# Altium footprint library Connector_PinHeader_2.54mm.PcbLib: 278 footprints (part 8 of 18)
Each footprint in its own frame and in the unit in brackets; x right, y up, seen from the top. Pads: shape width x height; smd on the part's side, far side on the other; paste and mask are expansions set on the pad; w line width, h text height; cw(c..) or ccw(c..) is an arc to the next point about the centre after c.
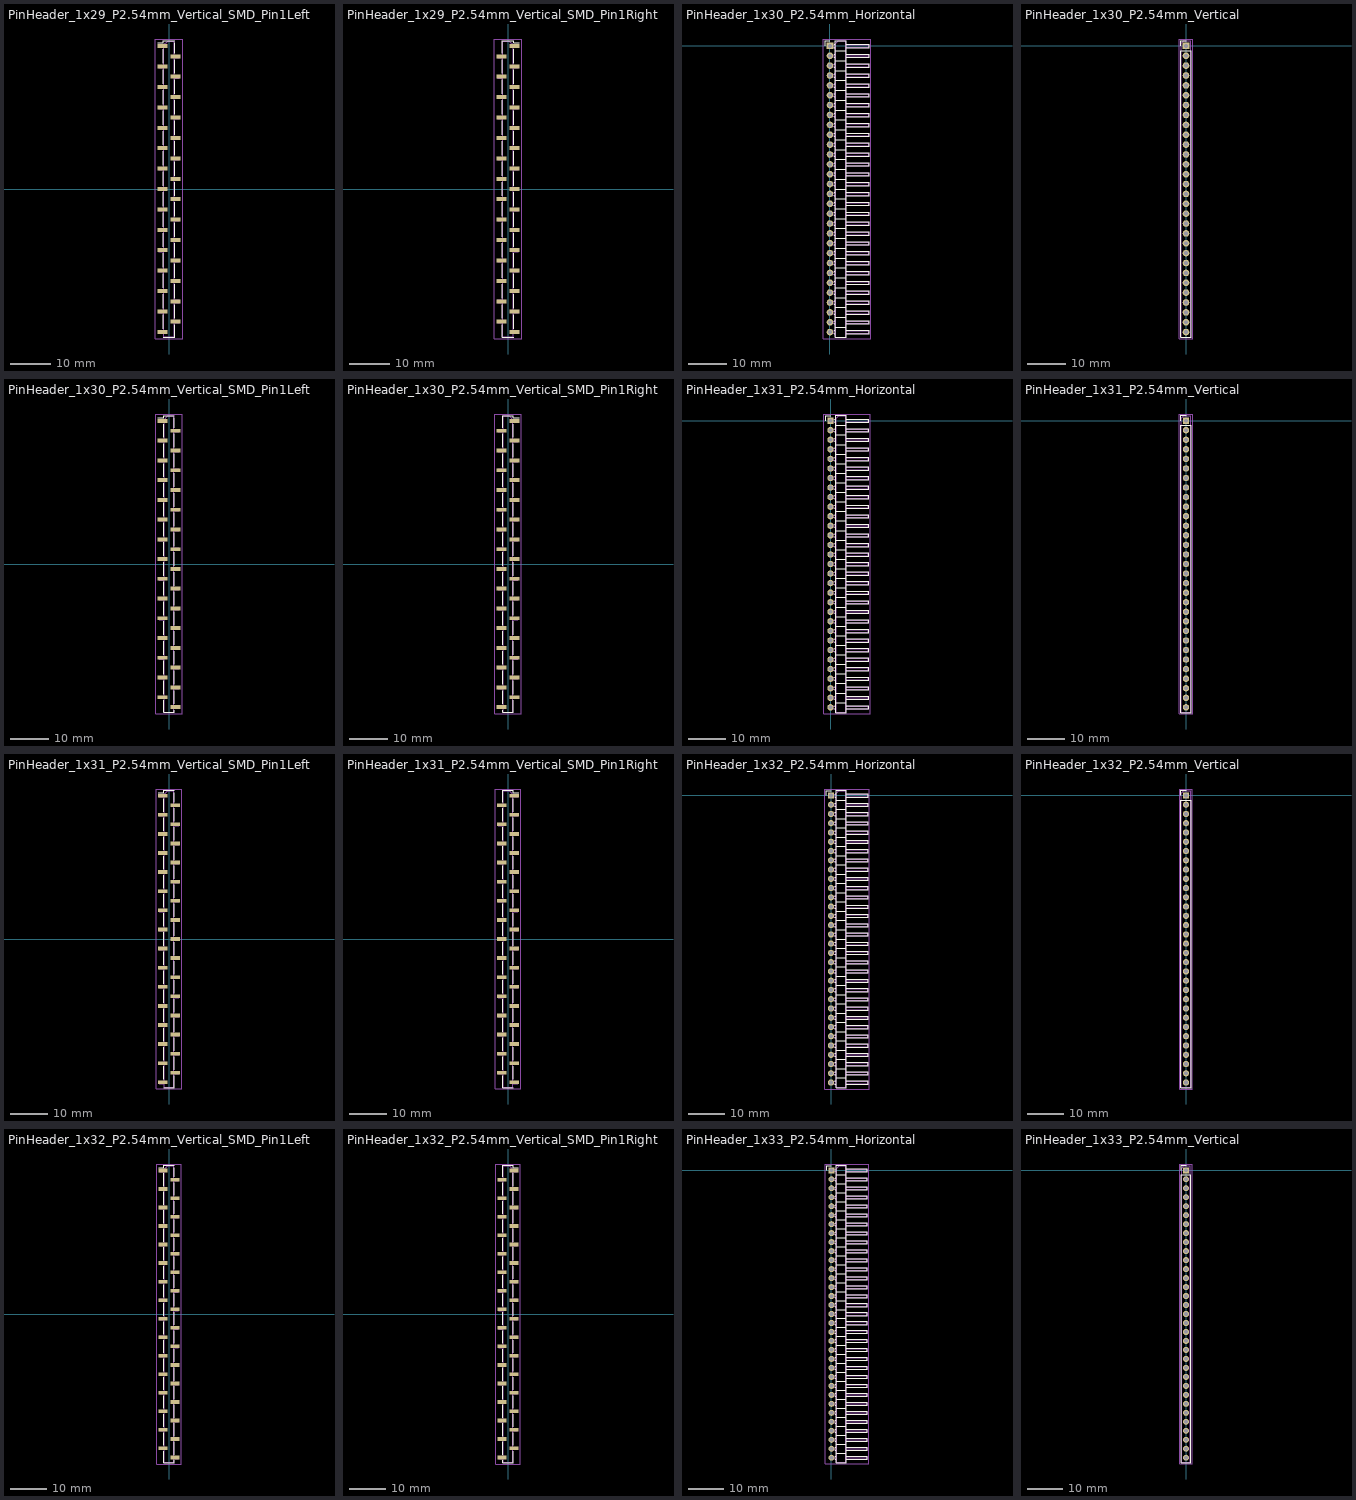
[diagram p7: the footprints below, top view; thin cyan lines are the x and y axes]

## PinHeader_1x29_P2.54mm_Vertical_SMD_Pin1Left [mm]
pads (29):
  rect 2.51x1 smd: 1(-1.655,35.56) 2(1.655,33.02) 3(-1.655,30.48) 4(1.655,27.94) 5(-1.655,25.4) 6(1.655,22.86) 7(-1.655,20.32) 8(1.655,17.78) 9(-1.655,15.24) 10(1.655,12.7) 11(-1.655,10.16) 12(1.655,7.62) 13(-1.655,5.08) 14(1.655,2.54) 15(-1.655,0) 16(1.655,-2.54) 17(-1.655,-5.08) 18(1.655,-7.62) 19(-1.655,-10.16) 20(1.655,-12.7) 21(-1.655,-15.24) 22(1.655,-17.78) 23(-1.655,-20.32) 24(1.655,-22.86) 25(-1.655,-25.4) 26(1.655,-27.94) 27(-1.655,-30.48) 28(1.655,-33.02) 29(-1.655,-35.56)
F.SilkS:
  lines w0.254: -2.85,36.37 -1.38,36.37 -1.38,36.94 1.38,36.94 ; -1.38,-36.94 1.38,-36.94 ; -1.38,-34.75 -1.38,-31.29 ; -1.38,-29.67 -1.38,-26.21 ; -1.38,-24.59 -1.38,-21.13 ; -1.38,-19.51 -1.38,-16.05 ; -1.38,-14.43 -1.38,-10.97 ; -1.38,-9.35 -1.38,-5.89 ; -1.38,-4.27 -1.38,-0.81 ; -1.38,0.81 -1.38,4.27 ; -1.38,5.89 -1.38,9.35 ; -1.38,10.97 -1.38,14.43 ; -1.38,16.05 -1.38,19.51 ; -1.38,21.13 -1.38,24.59 ; -1.38,26.21 -1.38,29.67 ; -1.38,31.29 -1.38,34.75 ; 1.38,-36.37 1.38,-36.94 ; 1.38,-33.83 1.38,-36.94 ; 1.38,-32.21 1.38,-28.75 ; 1.38,-27.13 1.38,-23.67 ; 1.38,-22.05 1.38,-18.59 ; 1.38,-16.97 1.38,-13.51 ; 1.38,-11.89 1.38,-8.43 ; 1.38,-6.81 1.38,-3.35 ; 1.38,-1.73 1.38,1.73 ; 1.38,3.35 1.38,6.81 ; 1.38,8.43 1.38,11.89 ; 1.38,13.51 1.38,16.97 ; 1.38,18.59 1.38,22.05 ; 1.38,23.67 1.38,27.13 ; 1.38,28.75 1.38,32.21 ; 1.38,33.83 1.38,36.37
Top Assembly:
  lines w0.254: -1.27,-35.88 -2.54,-35.88 -2.54,-35.24 -1.27,-35.24 ; -1.27,-30.8 -2.54,-30.8 -2.54,-30.16 -1.27,-30.16 ; -1.27,-25.72 -2.54,-25.72 -2.54,-25.08 -1.27,-25.08 ; -1.27,-20.64 -2.54,-20.64 -2.54,-20 -1.27,-20 ; -1.27,-15.56 -2.54,-15.56 -2.54,-14.92 -1.27,-14.92 ; -1.27,-10.48 -2.54,-10.48 -2.54,-9.84 -1.27,-9.84 ; -1.27,-5.4 -2.54,-5.4 -2.54,-4.76 -1.27,-4.76 ; -1.27,-0.32 -2.54,-0.32 -2.54,0.32 -1.27,0.32 ; -1.27,4.76 -2.54,4.76 -2.54,5.4 -1.27,5.4 ; -1.27,9.84 -2.54,9.84 -2.54,10.48 -1.27,10.48 ; -1.27,14.92 -2.54,14.92 -2.54,15.56 -1.27,15.56 ; -1.27,20 -2.54,20 -2.54,20.64 -1.27,20.64 ; -1.27,25.08 -2.54,25.08 -2.54,25.72 -1.27,25.72 ; -1.27,30.16 -2.54,30.16 -2.54,30.8 -1.27,30.8 ; -1.27,35.24 -2.54,35.24 -2.54,35.88 -1.27,35.88 ; 1.27,-33.34 2.54,-33.34 2.54,-32.7 1.27,-32.7 ; 1.27,-28.26 2.54,-28.26 2.54,-27.62 1.27,-27.62 ; 1.27,-23.18 2.54,-23.18 2.54,-22.54 1.27,-22.54 ; 1.27,-18.1 2.54,-18.1 2.54,-17.46 1.27,-17.46 ; 1.27,-13.02 2.54,-13.02 2.54,-12.38 1.27,-12.38 ; 1.27,-7.94 2.54,-7.94 2.54,-7.3 1.27,-7.3 ; 1.27,-2.86 2.54,-2.86 2.54,-2.22 1.27,-2.22 ; 1.27,2.22 2.54,2.22 2.54,2.86 1.27,2.86 ; 1.27,7.3 2.54,7.3 2.54,7.94 1.27,7.94 ; 1.27,12.38 2.54,12.38 2.54,13.02 1.27,13.02 ; 1.27,17.46 2.54,17.46 2.54,18.1 1.27,18.1 ; 1.27,22.54 2.54,22.54 2.54,23.18 1.27,23.18 ; 1.27,27.62 2.54,27.62 2.54,28.26 1.27,28.26 ; 1.27,32.7 2.54,32.7 2.54,33.34 1.27,33.34 ; -1.27,35.88 -1.27,-36.83 1.27,-36.83 1.27,36.83 -0.32,36.83 -1.27,35.88
  text "'.Designator'" at 0.84,-4.047 h1
Top Courtyard:
  lines w0.254: -3.41,-37.33 3.41,-37.33 3.41,37.33 -3.41,37.33 -3.41,-37.33
Top Designator:
  text ".Designator" at -7.618,-0.508 h1.52

## PinHeader_1x29_P2.54mm_Vertical_SMD_Pin1Right [mm]
pads (29):
  rect 2.51x1 smd: 1(1.655,35.56) 2(-1.655,33.02) 3(1.655,30.48) 4(-1.655,27.94) 5(1.655,25.4) 6(-1.655,22.86) 7(1.655,20.32) 8(-1.655,17.78) 9(1.655,15.24) 10(-1.655,12.7) 11(1.655,10.16) 12(-1.655,7.62) 13(1.655,5.08) 14(-1.655,2.54) 15(1.655,0) 16(-1.655,-2.54) 17(1.655,-5.08) 18(-1.655,-7.62) 19(1.655,-10.16) 20(-1.655,-12.7) 21(1.655,-15.24) 22(-1.655,-17.78) 23(1.655,-20.32) 24(-1.655,-22.86) 25(1.655,-25.4) 26(-1.655,-27.94) 27(1.655,-30.48) 28(-1.655,-33.02) 29(1.655,-35.56)
F.SilkS:
  lines w0.254: -1.38,-36.37 -1.38,-36.94 ; -1.38,-33.83 -1.38,-36.94 ; -1.38,-32.21 -1.38,-28.75 ; -1.38,-27.13 -1.38,-23.67 ; -1.38,-22.05 -1.38,-18.59 ; -1.38,-16.97 -1.38,-13.51 ; -1.38,-11.89 -1.38,-8.43 ; -1.38,-6.81 -1.38,-3.35 ; -1.38,-1.73 -1.38,1.73 ; -1.38,3.35 -1.38,6.81 ; -1.38,8.43 -1.38,11.89 ; -1.38,13.51 -1.38,16.97 ; -1.38,18.59 -1.38,22.05 ; -1.38,23.67 -1.38,27.13 ; -1.38,28.75 -1.38,32.21 ; -1.38,36.37 -1.38,33.83 -1.38,36.94 1.38,36.94 1.38,36.37 2.85,36.37 ; 1.38,-36.94 -1.38,-36.94 ; 1.38,-34.75 1.38,-31.29 ; 1.38,-29.67 1.38,-26.21 ; 1.38,-24.59 1.38,-21.13 ; 1.38,-19.51 1.38,-16.05 ; 1.38,-14.43 1.38,-10.97 ; 1.38,-9.35 1.38,-5.89 ; 1.38,-4.27 1.38,-0.81 ; 1.38,0.81 1.38,4.27 ; 1.38,5.89 1.38,9.35 ; 1.38,10.97 1.38,14.43 ; 1.38,16.05 1.38,19.51 ; 1.38,21.13 1.38,24.59 ; 1.38,26.21 1.38,29.67 ; 1.38,31.29 1.38,34.75
Top Assembly:
  lines w0.254: -1.27,-33.34 -2.54,-33.34 -2.54,-32.7 -1.27,-32.7 ; -1.27,-28.26 -2.54,-28.26 -2.54,-27.62 -1.27,-27.62 ; -1.27,-23.18 -2.54,-23.18 -2.54,-22.54 -1.27,-22.54 ; -1.27,-18.1 -2.54,-18.1 -2.54,-17.46 -1.27,-17.46 ; -1.27,-13.02 -2.54,-13.02 -2.54,-12.38 -1.27,-12.38 ; -1.27,-7.94 -2.54,-7.94 -2.54,-7.3 -1.27,-7.3 ; -1.27,-2.86 -2.54,-2.86 -2.54,-2.22 -1.27,-2.22 ; -1.27,2.22 -2.54,2.22 -2.54,2.86 -1.27,2.86 ; -1.27,7.3 -2.54,7.3 -2.54,7.94 -1.27,7.94 ; -1.27,12.38 -2.54,12.38 -2.54,13.02 -1.27,13.02 ; -1.27,17.46 -2.54,17.46 -2.54,18.1 -1.27,18.1 ; -1.27,22.54 -2.54,22.54 -2.54,23.18 -1.27,23.18 ; -1.27,27.62 -2.54,27.62 -2.54,28.26 -1.27,28.26 ; -1.27,32.7 -2.54,32.7 -2.54,33.34 -1.27,33.34 ; 1.27,-35.88 2.54,-35.88 2.54,-35.24 1.27,-35.24 ; 1.27,-30.8 2.54,-30.8 2.54,-30.16 1.27,-30.16 ; 1.27,-25.72 2.54,-25.72 2.54,-25.08 1.27,-25.08 ; 1.27,-20.64 2.54,-20.64 2.54,-20 1.27,-20 ; 1.27,-15.56 2.54,-15.56 2.54,-14.92 1.27,-14.92 ; 1.27,-10.48 2.54,-10.48 2.54,-9.84 1.27,-9.84 ; 1.27,-5.4 2.54,-5.4 2.54,-4.76 1.27,-4.76 ; 1.27,-0.32 2.54,-0.32 2.54,0.32 1.27,0.32 ; 1.27,4.76 2.54,4.76 2.54,5.4 1.27,5.4 ; 1.27,9.84 2.54,9.84 2.54,10.48 1.27,10.48 ; 1.27,14.92 2.54,14.92 2.54,15.56 1.27,15.56 ; 1.27,20 2.54,20 2.54,20.64 1.27,20.64 ; 1.27,25.08 2.54,25.08 2.54,25.72 1.27,25.72 ; 1.27,30.16 2.54,30.16 2.54,30.8 1.27,30.8 ; 1.27,35.24 2.54,35.24 2.54,35.88 1.27,35.88 ; 1.27,35.88 1.27,-36.83 -1.27,-36.83 -1.27,36.83 0.32,36.83 1.27,35.88
  text "'.Designator'" at 0.84,-4.047 h1
Top Courtyard:
  lines w0.254: -3.41,-37.33 3.41,-37.33 3.41,37.33 -3.41,37.33 -3.41,-37.33
Top Designator:
  text ".Designator" at -7.618,-0.508 h1.52

## PinHeader_1x30_P2.54mm_Horizontal [mm]
pads (30):
  rect 1.7x1.7 hole 1: 1(0,0)
  round 1.7 hole 1: 2(0,-2.54) 3(0,-5.08) 4(0,-7.62) 5(0,-10.16) 6(0,-12.7) 7(0,-15.24) 8(0,-17.78) 9(0,-20.32) 10(0,-22.86) 11(0,-25.4) 12(0,-27.94) 13(0,-30.48) 14(0,-33.02) 15(0,-35.56) 16(0,-38.1) 17(0,-40.64) 18(0,-43.18) 19(0,-45.72) 20(0,-48.26) 21(0,-50.8) 22(0,-53.34) 23(0,-55.88) 24(0,-58.42) 25(0,-60.96) 26(0,-63.5) 27(0,-66.04) 28(0,-68.58) 29(0,-71.12) 30(0,-73.66)
F.SilkS:
  drawing of 186 lines, arcs and shapes, not listed
Top Assembly:
  drawing of 185 lines, arcs and shapes, not listed
  text "'.Designator'" at 3.61,-40.877 h1
Top Courtyard:
  lines w0.254: -1.77,-75.43 10.54,-75.43 10.54,1.77 -1.77,1.77 -1.77,-75.43
Top Designator:
  text ".Designator" at -3.233,-37.338 h1.52

## PinHeader_1x30_P2.54mm_Vertical [mm]
pads (30):
  rect 1.7x1.7 hole 1: 1(0,0)
  round 1.7 hole 1: 2(0,-2.54) 3(0,-5.08) 4(0,-7.62) 5(0,-10.16) 6(0,-12.7) 7(0,-15.24) 8(0,-17.78) 9(0,-20.32) 10(0,-22.86) 11(0,-25.4) 12(0,-27.94) 13(0,-30.48) 14(0,-33.02) 15(0,-35.56) 16(0,-38.1) 17(0,-40.64) 18(0,-43.18) 19(0,-45.72) 20(0,-48.26) 21(0,-50.8) 22(0,-53.34) 23(0,-55.88) 24(0,-58.42) 25(0,-60.96) 26(0,-63.5) 27(0,-66.04) 28(0,-68.58) 29(0,-71.12) 30(0,-73.66)
F.SilkS:
  lines w0.254: -1.38,0 -1.38,1.38 0,1.38 ; -1.38,-75.04 1.38,-75.04 1.38,-1.27 -1.38,-1.27 -1.38,-75.04
Top Assembly:
  lines w0.254: -1.27,-74.93 1.27,-74.93 1.27,1.27 -0.635,1.27 -1.27,0.635 -1.27,-74.93
  text "'.Designator'" at 0.84,-40.877 h1
Top Courtyard:
  lines w0.254: -1.77,-75.43 1.77,-75.43 1.77,1.77 -1.77,1.77 -1.77,-75.43
Top Designator:
  text ".Designator" at -7.618,-37.338 h1.52

## PinHeader_1x30_P2.54mm_Vertical_SMD_Pin1Left [mm]
pads (30):
  rect 2.51x1 smd: 1(-1.655,36.83) 2(1.655,34.29) 3(-1.655,31.75) 4(1.655,29.21) 5(-1.655,26.67) 6(1.655,24.13) 7(-1.655,21.59) 8(1.655,19.05) 9(-1.655,16.51) 10(1.655,13.97) 11(-1.655,11.43) 12(1.655,8.89) 13(-1.655,6.35) 14(1.655,3.81) 15(-1.655,1.27) 16(1.655,-1.27) 17(-1.655,-3.81) 18(1.655,-6.35) 19(-1.655,-8.89) 20(1.655,-11.43) 21(-1.655,-13.97) 22(1.655,-16.51) 23(-1.655,-19.05) 24(1.655,-21.59) 25(-1.655,-24.13) 26(1.655,-26.67) 27(-1.655,-29.21) 28(1.655,-31.75) 29(-1.655,-34.29) 30(1.655,-36.83)
F.SilkS:
  lines w0.254: -2.85,37.64 -1.38,37.64 -1.38,38.21 1.38,38.21 ; -1.38,-35.1 -1.38,-38.21 1.38,-38.21 1.38,-37.64 ; -1.38,-33.48 -1.38,-30.02 ; -1.38,-28.4 -1.38,-24.94 ; -1.38,-23.32 -1.38,-19.86 ; -1.38,-18.24 -1.38,-14.78 ; -1.38,-13.16 -1.38,-9.7 ; -1.38,-8.08 -1.38,-4.62 ; -1.38,-3 -1.38,0.46 ; -1.38,2.08 -1.38,5.54 ; -1.38,7.16 -1.38,10.62 ; -1.38,12.24 -1.38,15.7 ; -1.38,17.32 -1.38,20.78 ; -1.38,22.4 -1.38,25.86 ; -1.38,27.48 -1.38,30.94 ; -1.38,32.56 -1.38,36.02 ; 1.38,-36.02 1.38,-32.56 ; 1.38,-30.94 1.38,-27.48 ; 1.38,-25.86 1.38,-22.4 ; 1.38,-20.78 1.38,-17.32 ; 1.38,-15.7 1.38,-12.24 ; 1.38,-10.62 1.38,-7.16 ; 1.38,-5.54 1.38,-2.08 ; 1.38,-0.46 1.38,3 ; 1.38,4.62 1.38,8.08 ; 1.38,9.7 1.38,13.16 ; 1.38,14.78 1.38,18.24 ; 1.38,19.86 1.38,23.32 ; 1.38,24.94 1.38,28.4 ; 1.38,30.02 1.38,33.48 ; 1.38,35.1 1.38,37.64
Top Assembly:
  lines w0.254: -1.27,-34.61 -2.54,-34.61 -2.54,-33.97 -1.27,-33.97 ; -1.27,-29.53 -2.54,-29.53 -2.54,-28.89 -1.27,-28.89 ; -1.27,-24.45 -2.54,-24.45 -2.54,-23.81 -1.27,-23.81 ; -1.27,-19.37 -2.54,-19.37 -2.54,-18.73 -1.27,-18.73 ; -1.27,-14.29 -2.54,-14.29 -2.54,-13.65 -1.27,-13.65 ; -1.27,-9.21 -2.54,-9.21 -2.54,-8.57 -1.27,-8.57 ; -1.27,-4.13 -2.54,-4.13 -2.54,-3.49 -1.27,-3.49 ; -1.27,0.95 -2.54,0.95 -2.54,1.59 -1.27,1.59 ; -1.27,6.03 -2.54,6.03 -2.54,6.67 -1.27,6.67 ; -1.27,11.11 -2.54,11.11 -2.54,11.75 -1.27,11.75 ; -1.27,16.19 -2.54,16.19 -2.54,16.83 -1.27,16.83 ; -1.27,21.27 -2.54,21.27 -2.54,21.91 -1.27,21.91 ; -1.27,26.35 -2.54,26.35 -2.54,26.99 -1.27,26.99 ; -1.27,31.43 -2.54,31.43 -2.54,32.07 -1.27,32.07 ; -1.27,36.51 -2.54,36.51 -2.54,37.15 -1.27,37.15 ; 1.27,-37.15 2.54,-37.15 2.54,-36.51 1.27,-36.51 ; 1.27,-32.07 2.54,-32.07 2.54,-31.43 1.27,-31.43 ; 1.27,-26.99 2.54,-26.99 2.54,-26.35 1.27,-26.35 ; 1.27,-21.91 2.54,-21.91 2.54,-21.27 1.27,-21.27 ; 1.27,-16.83 2.54,-16.83 2.54,-16.19 1.27,-16.19 ; 1.27,-11.75 2.54,-11.75 2.54,-11.11 1.27,-11.11 ; 1.27,-6.67 2.54,-6.67 2.54,-6.03 1.27,-6.03 ; 1.27,-1.59 2.54,-1.59 2.54,-0.95 1.27,-0.95 ; 1.27,3.49 2.54,3.49 2.54,4.13 1.27,4.13 ; 1.27,8.57 2.54,8.57 2.54,9.21 1.27,9.21 ; 1.27,13.65 2.54,13.65 2.54,14.29 1.27,14.29 ; 1.27,18.73 2.54,18.73 2.54,19.37 1.27,19.37 ; 1.27,23.81 2.54,23.81 2.54,24.45 1.27,24.45 ; 1.27,28.89 2.54,28.89 2.54,29.53 1.27,29.53 ; 1.27,33.97 2.54,33.97 2.54,34.61 1.27,34.61 ; -1.27,37.15 -1.27,-38.1 1.27,-38.1 1.27,38.1 -0.32,38.1 -1.27,37.15
  text "'.Designator'" at 0.84,-4.047 h1
Top Courtyard:
  lines w0.254: -3.41,-38.6 3.41,-38.6 3.41,38.6 -3.41,38.6 -3.41,-38.6
Top Designator:
  text ".Designator" at -7.618,-0.508 h1.52

## PinHeader_1x30_P2.54mm_Vertical_SMD_Pin1Right [mm]
pads (30):
  rect 2.51x1 smd: 1(1.655,36.83) 2(-1.655,34.29) 3(1.655,31.75) 4(-1.655,29.21) 5(1.655,26.67) 6(-1.655,24.13) 7(1.655,21.59) 8(-1.655,19.05) 9(1.655,16.51) 10(-1.655,13.97) 11(1.655,11.43) 12(-1.655,8.89) 13(1.655,6.35) 14(-1.655,3.81) 15(1.655,1.27) 16(-1.655,-1.27) 17(1.655,-3.81) 18(-1.655,-6.35) 19(1.655,-8.89) 20(-1.655,-11.43) 21(1.655,-13.97) 22(-1.655,-16.51) 23(1.655,-19.05) 24(-1.655,-21.59) 25(1.655,-24.13) 26(-1.655,-26.67) 27(1.655,-29.21) 28(-1.655,-31.75) 29(1.655,-34.29) 30(-1.655,-36.83)
F.SilkS:
  lines w0.254: -1.38,-37.64 -1.38,-38.21 1.38,-38.21 1.38,-35.1 ; -1.38,-36.02 -1.38,-32.56 ; -1.38,-30.94 -1.38,-27.48 ; -1.38,-25.86 -1.38,-22.4 ; -1.38,-20.78 -1.38,-17.32 ; -1.38,-15.7 -1.38,-12.24 ; -1.38,-10.62 -1.38,-7.16 ; -1.38,-5.54 -1.38,-2.08 ; -1.38,-0.46 -1.38,3 ; -1.38,4.62 -1.38,8.08 ; -1.38,9.7 -1.38,13.16 ; -1.38,14.78 -1.38,18.24 ; -1.38,19.86 -1.38,23.32 ; -1.38,24.94 -1.38,28.4 ; -1.38,30.02 -1.38,33.48 ; -1.38,37.64 -1.38,35.1 -1.38,38.21 1.38,38.21 1.38,37.64 2.85,37.64 ; 1.38,-33.48 1.38,-30.02 ; 1.38,-28.4 1.38,-24.94 ; 1.38,-23.32 1.38,-19.86 ; 1.38,-18.24 1.38,-14.78 ; 1.38,-13.16 1.38,-9.7 ; 1.38,-8.08 1.38,-4.62 ; 1.38,-3 1.38,0.46 ; 1.38,2.08 1.38,5.54 ; 1.38,7.16 1.38,10.62 ; 1.38,12.24 1.38,15.7 ; 1.38,17.32 1.38,20.78 ; 1.38,22.4 1.38,25.86 ; 1.38,27.48 1.38,30.94 ; 1.38,32.56 1.38,36.02
Top Assembly:
  lines w0.254: -1.27,-37.15 -2.54,-37.15 -2.54,-36.51 -1.27,-36.51 ; -1.27,-32.07 -2.54,-32.07 -2.54,-31.43 -1.27,-31.43 ; -1.27,-26.99 -2.54,-26.99 -2.54,-26.35 -1.27,-26.35 ; -1.27,-21.91 -2.54,-21.91 -2.54,-21.27 -1.27,-21.27 ; -1.27,-16.83 -2.54,-16.83 -2.54,-16.19 -1.27,-16.19 ; -1.27,-11.75 -2.54,-11.75 -2.54,-11.11 -1.27,-11.11 ; -1.27,-6.67 -2.54,-6.67 -2.54,-6.03 -1.27,-6.03 ; -1.27,-1.59 -2.54,-1.59 -2.54,-0.95 -1.27,-0.95 ; -1.27,3.49 -2.54,3.49 -2.54,4.13 -1.27,4.13 ; -1.27,8.57 -2.54,8.57 -2.54,9.21 -1.27,9.21 ; -1.27,13.65 -2.54,13.65 -2.54,14.29 -1.27,14.29 ; -1.27,18.73 -2.54,18.73 -2.54,19.37 -1.27,19.37 ; -1.27,23.81 -2.54,23.81 -2.54,24.45 -1.27,24.45 ; -1.27,28.89 -2.54,28.89 -2.54,29.53 -1.27,29.53 ; -1.27,33.97 -2.54,33.97 -2.54,34.61 -1.27,34.61 ; 1.27,-34.61 2.54,-34.61 2.54,-33.97 1.27,-33.97 ; 1.27,-29.53 2.54,-29.53 2.54,-28.89 1.27,-28.89 ; 1.27,-24.45 2.54,-24.45 2.54,-23.81 1.27,-23.81 ; 1.27,-19.37 2.54,-19.37 2.54,-18.73 1.27,-18.73 ; 1.27,-14.29 2.54,-14.29 2.54,-13.65 1.27,-13.65 ; 1.27,-9.21 2.54,-9.21 2.54,-8.57 1.27,-8.57 ; 1.27,-4.13 2.54,-4.13 2.54,-3.49 1.27,-3.49 ; 1.27,0.95 2.54,0.95 2.54,1.59 1.27,1.59 ; 1.27,6.03 2.54,6.03 2.54,6.67 1.27,6.67 ; 1.27,11.11 2.54,11.11 2.54,11.75 1.27,11.75 ; 1.27,16.19 2.54,16.19 2.54,16.83 1.27,16.83 ; 1.27,21.27 2.54,21.27 2.54,21.91 1.27,21.91 ; 1.27,26.35 2.54,26.35 2.54,26.99 1.27,26.99 ; 1.27,31.43 2.54,31.43 2.54,32.07 1.27,32.07 ; 1.27,36.51 2.54,36.51 2.54,37.15 1.27,37.15 ; 1.27,37.15 1.27,-38.1 -1.27,-38.1 -1.27,38.1 0.32,38.1 1.27,37.15
  text "'.Designator'" at 0.84,-4.047 h1
Top Courtyard:
  lines w0.254: -3.41,-38.6 3.41,-38.6 3.41,38.6 -3.41,38.6 -3.41,-38.6
Top Designator:
  text ".Designator" at -7.618,-0.508 h1.52

## PinHeader_1x31_P2.54mm_Horizontal [mm]
pads (31):
  rect 1.7x1.7 hole 1: 1(0,0)
  round 1.7 hole 1: 2(0,-2.54) 3(0,-5.08) 4(0,-7.62) 5(0,-10.16) 6(0,-12.7) 7(0,-15.24) 8(0,-17.78) 9(0,-20.32) 10(0,-22.86) 11(0,-25.4) 12(0,-27.94) 13(0,-30.48) 14(0,-33.02) 15(0,-35.56) 16(0,-38.1) 17(0,-40.64) 18(0,-43.18) 19(0,-45.72) 20(0,-48.26) 21(0,-50.8) 22(0,-53.34) 23(0,-55.88) 24(0,-58.42) 25(0,-60.96) 26(0,-63.5) 27(0,-66.04) 28(0,-68.58) 29(0,-71.12) 30(0,-73.66) 31(0,-76.2)
F.SilkS:
  drawing of 192 lines, arcs and shapes, not listed
Top Assembly:
  drawing of 191 lines, arcs and shapes, not listed
  text "'.Designator'" at 3.61,-42.147 h1
Top Courtyard:
  lines w0.254: -1.77,-77.97 10.54,-77.97 10.54,1.77 -1.77,1.77 -1.77,-77.97
Top Designator:
  text ".Designator" at -3.233,-38.608 h1.52

## PinHeader_1x31_P2.54mm_Vertical [mm]
pads (31):
  rect 1.7x1.7 hole 1: 1(0,0)
  round 1.7 hole 1: 2(0,-2.54) 3(0,-5.08) 4(0,-7.62) 5(0,-10.16) 6(0,-12.7) 7(0,-15.24) 8(0,-17.78) 9(0,-20.32) 10(0,-22.86) 11(0,-25.4) 12(0,-27.94) 13(0,-30.48) 14(0,-33.02) 15(0,-35.56) 16(0,-38.1) 17(0,-40.64) 18(0,-43.18) 19(0,-45.72) 20(0,-48.26) 21(0,-50.8) 22(0,-53.34) 23(0,-55.88) 24(0,-58.42) 25(0,-60.96) 26(0,-63.5) 27(0,-66.04) 28(0,-68.58) 29(0,-71.12) 30(0,-73.66) 31(0,-76.2)
F.SilkS:
  lines w0.254: -1.38,0 -1.38,1.38 0,1.38 ; -1.38,-77.58 1.38,-77.58 1.38,-1.27 -1.38,-1.27 -1.38,-77.58
Top Assembly:
  lines w0.254: -1.27,-77.47 1.27,-77.47 1.27,1.27 -0.635,1.27 -1.27,0.635 -1.27,-77.47
  text "'.Designator'" at 0.84,-42.147 h1
Top Courtyard:
  lines w0.254: -1.77,-77.97 1.77,-77.97 1.77,1.77 -1.77,1.77 -1.77,-77.97
Top Designator:
  text ".Designator" at -7.618,-38.608 h1.52

## PinHeader_1x31_P2.54mm_Vertical_SMD_Pin1Left [mm]
pads (31):
  rect 2.51x1 smd: 1(-1.655,38.1) 2(1.655,35.56) 3(-1.655,33.02) 4(1.655,30.48) 5(-1.655,27.94) 6(1.655,25.4) 7(-1.655,22.86) 8(1.655,20.32) 9(-1.655,17.78) 10(1.655,15.24) 11(-1.655,12.7) 12(1.655,10.16) 13(-1.655,7.62) 14(1.655,5.08) 15(-1.655,2.54) 16(1.655,0) 17(-1.655,-2.54) 18(1.655,-5.08) 19(-1.655,-7.62) 20(1.655,-10.16) 21(-1.655,-12.7) 22(1.655,-15.24) 23(-1.655,-17.78) 24(1.655,-20.32) 25(-1.655,-22.86) 26(1.655,-25.4) 27(-1.655,-27.94) 28(1.655,-30.48) 29(-1.655,-33.02) 30(1.655,-35.56) 31(-1.655,-38.1)
F.SilkS:
  lines w0.254: -2.85,38.91 -1.38,38.91 -1.38,39.48 1.38,39.48 ; -1.38,-39.48 1.38,-39.48 ; -1.38,-37.29 -1.38,-33.83 ; -1.38,-32.21 -1.38,-28.75 ; -1.38,-27.13 -1.38,-23.67 ; -1.38,-22.05 -1.38,-18.59 ; -1.38,-16.97 -1.38,-13.51 ; -1.38,-11.89 -1.38,-8.43 ; -1.38,-6.81 -1.38,-3.35 ; -1.38,-1.73 -1.38,1.73 ; -1.38,3.35 -1.38,6.81 ; -1.38,8.43 -1.38,11.89 ; -1.38,13.51 -1.38,16.97 ; -1.38,18.59 -1.38,22.05 ; -1.38,23.67 -1.38,27.13 ; -1.38,28.75 -1.38,32.21 ; -1.38,33.83 -1.38,37.29 ; 1.38,-38.91 1.38,-39.48 ; 1.38,-36.37 1.38,-39.48 ; 1.38,-34.75 1.38,-31.29 ; 1.38,-29.67 1.38,-26.21 ; 1.38,-24.59 1.38,-21.13 ; 1.38,-19.51 1.38,-16.05 ; 1.38,-14.43 1.38,-10.97 ; 1.38,-9.35 1.38,-5.89 ; 1.38,-4.27 1.38,-0.81 ; 1.38,0.81 1.38,4.27 ; 1.38,5.89 1.38,9.35 ; 1.38,10.97 1.38,14.43 ; 1.38,16.05 1.38,19.51 ; 1.38,21.13 1.38,24.59 ; 1.38,26.21 1.38,29.67 ; 1.38,31.29 1.38,34.75 ; 1.38,36.37 1.38,38.91
Top Assembly:
  lines w0.254: -1.27,-38.42 -2.54,-38.42 -2.54,-37.78 -1.27,-37.78 ; -1.27,-33.34 -2.54,-33.34 -2.54,-32.7 -1.27,-32.7 ; -1.27,-28.26 -2.54,-28.26 -2.54,-27.62 -1.27,-27.62 ; -1.27,-23.18 -2.54,-23.18 -2.54,-22.54 -1.27,-22.54 ; -1.27,-18.1 -2.54,-18.1 -2.54,-17.46 -1.27,-17.46 ; -1.27,-13.02 -2.54,-13.02 -2.54,-12.38 -1.27,-12.38 ; -1.27,-7.94 -2.54,-7.94 -2.54,-7.3 -1.27,-7.3 ; -1.27,-2.86 -2.54,-2.86 -2.54,-2.22 -1.27,-2.22 ; -1.27,2.22 -2.54,2.22 -2.54,2.86 -1.27,2.86 ; -1.27,7.3 -2.54,7.3 -2.54,7.94 -1.27,7.94 ; -1.27,12.38 -2.54,12.38 -2.54,13.02 -1.27,13.02 ; -1.27,17.46 -2.54,17.46 -2.54,18.1 -1.27,18.1 ; -1.27,22.54 -2.54,22.54 -2.54,23.18 -1.27,23.18 ; -1.27,27.62 -2.54,27.62 -2.54,28.26 -1.27,28.26 ; -1.27,32.7 -2.54,32.7 -2.54,33.34 -1.27,33.34 ; -1.27,37.78 -2.54,37.78 -2.54,38.42 -1.27,38.42 ; 1.27,-35.88 2.54,-35.88 2.54,-35.24 1.27,-35.24 ; 1.27,-30.8 2.54,-30.8 2.54,-30.16 1.27,-30.16 ; 1.27,-25.72 2.54,-25.72 2.54,-25.08 1.27,-25.08 ; 1.27,-20.64 2.54,-20.64 2.54,-20 1.27,-20 ; 1.27,-15.56 2.54,-15.56 2.54,-14.92 1.27,-14.92 ; 1.27,-10.48 2.54,-10.48 2.54,-9.84 1.27,-9.84 ; 1.27,-5.4 2.54,-5.4 2.54,-4.76 1.27,-4.76 ; 1.27,-0.32 2.54,-0.32 2.54,0.32 1.27,0.32 ; 1.27,4.76 2.54,4.76 2.54,5.4 1.27,5.4 ; 1.27,9.84 2.54,9.84 2.54,10.48 1.27,10.48 ; 1.27,14.92 2.54,14.92 2.54,15.56 1.27,15.56 ; 1.27,20 2.54,20 2.54,20.64 1.27,20.64 ; 1.27,25.08 2.54,25.08 2.54,25.72 1.27,25.72 ; 1.27,30.16 2.54,30.16 2.54,30.8 1.27,30.8 ; 1.27,35.24 2.54,35.24 2.54,35.88 1.27,35.88 ; -1.27,38.42 -1.27,-39.37 1.27,-39.37 1.27,39.37 -0.32,39.37 -1.27,38.42
  text "'.Designator'" at 0.84,-4.047 h1
Top Courtyard:
  lines w0.254: -3.41,-39.87 3.41,-39.87 3.41,39.87 -3.41,39.87 -3.41,-39.87
Top Designator:
  text ".Designator" at -7.618,-0.508 h1.52

## PinHeader_1x31_P2.54mm_Vertical_SMD_Pin1Right [mm]
pads (31):
  rect 2.51x1 smd: 1(1.655,38.1) 2(-1.655,35.56) 3(1.655,33.02) 4(-1.655,30.48) 5(1.655,27.94) 6(-1.655,25.4) 7(1.655,22.86) 8(-1.655,20.32) 9(1.655,17.78) 10(-1.655,15.24) 11(1.655,12.7) 12(-1.655,10.16) 13(1.655,7.62) 14(-1.655,5.08) 15(1.655,2.54) 16(-1.655,0) 17(1.655,-2.54) 18(-1.655,-5.08) 19(1.655,-7.62) 20(-1.655,-10.16) 21(1.655,-12.7) 22(-1.655,-15.24) 23(1.655,-17.78) 24(-1.655,-20.32) 25(1.655,-22.86) 26(-1.655,-25.4) 27(1.655,-27.94) 28(-1.655,-30.48) 29(1.655,-33.02) 30(-1.655,-35.56) 31(1.655,-38.1)
F.SilkS:
  lines w0.254: -1.38,-38.91 -1.38,-39.48 ; -1.38,-36.37 -1.38,-39.48 ; -1.38,-34.75 -1.38,-31.29 ; -1.38,-29.67 -1.38,-26.21 ; -1.38,-24.59 -1.38,-21.13 ; -1.38,-19.51 -1.38,-16.05 ; -1.38,-14.43 -1.38,-10.97 ; -1.38,-9.35 -1.38,-5.89 ; -1.38,-4.27 -1.38,-0.81 ; -1.38,0.81 -1.38,4.27 ; -1.38,5.89 -1.38,9.35 ; -1.38,10.97 -1.38,14.43 ; -1.38,16.05 -1.38,19.51 ; -1.38,21.13 -1.38,24.59 ; -1.38,26.21 -1.38,29.67 ; -1.38,31.29 -1.38,34.75 ; -1.38,38.91 -1.38,36.37 -1.38,39.48 1.38,39.48 1.38,38.91 2.85,38.91 ; 1.38,-39.48 -1.38,-39.48 ; 1.38,-37.29 1.38,-33.83 ; 1.38,-32.21 1.38,-28.75 ; 1.38,-27.13 1.38,-23.67 ; 1.38,-22.05 1.38,-18.59 ; 1.38,-16.97 1.38,-13.51 ; 1.38,-11.89 1.38,-8.43 ; 1.38,-6.81 1.38,-3.35 ; 1.38,-1.73 1.38,1.73 ; 1.38,3.35 1.38,6.81 ; 1.38,8.43 1.38,11.89 ; 1.38,13.51 1.38,16.97 ; 1.38,18.59 1.38,22.05 ; 1.38,23.67 1.38,27.13 ; 1.38,28.75 1.38,32.21 ; 1.38,33.83 1.38,37.29
Top Assembly:
  lines w0.254: -1.27,-35.88 -2.54,-35.88 -2.54,-35.24 -1.27,-35.24 ; -1.27,-30.8 -2.54,-30.8 -2.54,-30.16 -1.27,-30.16 ; -1.27,-25.72 -2.54,-25.72 -2.54,-25.08 -1.27,-25.08 ; -1.27,-20.64 -2.54,-20.64 -2.54,-20 -1.27,-20 ; -1.27,-15.56 -2.54,-15.56 -2.54,-14.92 -1.27,-14.92 ; -1.27,-10.48 -2.54,-10.48 -2.54,-9.84 -1.27,-9.84 ; -1.27,-5.4 -2.54,-5.4 -2.54,-4.76 -1.27,-4.76 ; -1.27,-0.32 -2.54,-0.32 -2.54,0.32 -1.27,0.32 ; -1.27,4.76 -2.54,4.76 -2.54,5.4 -1.27,5.4 ; -1.27,9.84 -2.54,9.84 -2.54,10.48 -1.27,10.48 ; -1.27,14.92 -2.54,14.92 -2.54,15.56 -1.27,15.56 ; -1.27,20 -2.54,20 -2.54,20.64 -1.27,20.64 ; -1.27,25.08 -2.54,25.08 -2.54,25.72 -1.27,25.72 ; -1.27,30.16 -2.54,30.16 -2.54,30.8 -1.27,30.8 ; -1.27,35.24 -2.54,35.24 -2.54,35.88 -1.27,35.88 ; 1.27,-38.42 2.54,-38.42 2.54,-37.78 1.27,-37.78 ; 1.27,-33.34 2.54,-33.34 2.54,-32.7 1.27,-32.7 ; 1.27,-28.26 2.54,-28.26 2.54,-27.62 1.27,-27.62 ; 1.27,-23.18 2.54,-23.18 2.54,-22.54 1.27,-22.54 ; 1.27,-18.1 2.54,-18.1 2.54,-17.46 1.27,-17.46 ; 1.27,-13.02 2.54,-13.02 2.54,-12.38 1.27,-12.38 ; 1.27,-7.94 2.54,-7.94 2.54,-7.3 1.27,-7.3 ; 1.27,-2.86 2.54,-2.86 2.54,-2.22 1.27,-2.22 ; 1.27,2.22 2.54,2.22 2.54,2.86 1.27,2.86 ; 1.27,7.3 2.54,7.3 2.54,7.94 1.27,7.94 ; 1.27,12.38 2.54,12.38 2.54,13.02 1.27,13.02 ; 1.27,17.46 2.54,17.46 2.54,18.1 1.27,18.1 ; 1.27,22.54 2.54,22.54 2.54,23.18 1.27,23.18 ; 1.27,27.62 2.54,27.62 2.54,28.26 1.27,28.26 ; 1.27,32.7 2.54,32.7 2.54,33.34 1.27,33.34 ; 1.27,37.78 2.54,37.78 2.54,38.42 1.27,38.42 ; 1.27,38.42 1.27,-39.37 -1.27,-39.37 -1.27,39.37 0.32,39.37 1.27,38.42
  text "'.Designator'" at 0.84,-4.047 h1
Top Courtyard:
  lines w0.254: -3.41,-39.87 3.41,-39.87 3.41,39.87 -3.41,39.87 -3.41,-39.87
Top Designator:
  text ".Designator" at -7.618,-0.508 h1.52

## PinHeader_1x32_P2.54mm_Horizontal [mm]
pads (32):
  rect 1.7x1.7 hole 1: 1(0,0)
  round 1.7 hole 1: 2(0,-2.54) 3(0,-5.08) 4(0,-7.62) 5(0,-10.16) 6(0,-12.7) 7(0,-15.24) 8(0,-17.78) 9(0,-20.32) 10(0,-22.86) 11(0,-25.4) 12(0,-27.94) 13(0,-30.48) 14(0,-33.02) 15(0,-35.56) 16(0,-38.1) 17(0,-40.64) 18(0,-43.18) 19(0,-45.72) 20(0,-48.26) 21(0,-50.8) 22(0,-53.34) 23(0,-55.88) 24(0,-58.42) 25(0,-60.96) 26(0,-63.5) 27(0,-66.04) 28(0,-68.58) 29(0,-71.12) 30(0,-73.66) 31(0,-76.2) 32(0,-78.74)
F.SilkS:
  drawing of 198 lines, arcs and shapes, not listed
Top Assembly:
  drawing of 197 lines, arcs and shapes, not listed
  text "'.Designator'" at 3.61,-43.417 h1
Top Courtyard:
  lines w0.254: -1.77,-80.51 10.54,-80.51 10.54,1.77 -1.77,1.77 -1.77,-80.51
Top Designator:
  text ".Designator" at -3.233,-39.878 h1.52

## PinHeader_1x32_P2.54mm_Vertical [mm]
pads (32):
  rect 1.7x1.7 hole 1: 1(0,0)
  round 1.7 hole 1: 2(0,-2.54) 3(0,-5.08) 4(0,-7.62) 5(0,-10.16) 6(0,-12.7) 7(0,-15.24) 8(0,-17.78) 9(0,-20.32) 10(0,-22.86) 11(0,-25.4) 12(0,-27.94) 13(0,-30.48) 14(0,-33.02) 15(0,-35.56) 16(0,-38.1) 17(0,-40.64) 18(0,-43.18) 19(0,-45.72) 20(0,-48.26) 21(0,-50.8) 22(0,-53.34) 23(0,-55.88) 24(0,-58.42) 25(0,-60.96) 26(0,-63.5) 27(0,-66.04) 28(0,-68.58) 29(0,-71.12) 30(0,-73.66) 31(0,-76.2) 32(0,-78.74)
F.SilkS:
  lines w0.254: -1.38,0 -1.38,1.38 0,1.38 ; -1.38,-80.12 1.38,-80.12 1.38,-1.27 -1.38,-1.27 -1.38,-80.12
Top Assembly:
  lines w0.254: -1.27,-80.01 1.27,-80.01 1.27,1.27 -0.635,1.27 -1.27,0.635 -1.27,-80.01
  text "'.Designator'" at 0.84,-43.417 h1
Top Courtyard:
  lines w0.254: -1.77,-80.51 1.77,-80.51 1.77,1.77 -1.77,1.77 -1.77,-80.51
Top Designator:
  text ".Designator" at -7.618,-39.878 h1.52

## PinHeader_1x32_P2.54mm_Vertical_SMD_Pin1Left [mm]
pads (32):
  rect 2.51x1 smd: 1(-1.655,39.37) 2(1.655,36.83) 3(-1.655,34.29) 4(1.655,31.75) 5(-1.655,29.21) 6(1.655,26.67) 7(-1.655,24.13) 8(1.655,21.59) 9(-1.655,19.05) 10(1.655,16.51) 11(-1.655,13.97) 12(1.655,11.43) 13(-1.655,8.89) 14(1.655,6.35) 15(-1.655,3.81) 16(1.655,1.27) 17(-1.655,-1.27) 18(1.655,-3.81) 19(-1.655,-6.35) 20(1.655,-8.89) 21(-1.655,-11.43) 22(1.655,-13.97) 23(-1.655,-16.51) 24(1.655,-19.05) 25(-1.655,-21.59) 26(1.655,-24.13) 27(-1.655,-26.67) 28(1.655,-29.21) 29(-1.655,-31.75) 30(1.655,-34.29) 31(-1.655,-36.83) 32(1.655,-39.37)
F.SilkS:
  lines w0.254: -2.85,40.18 -1.38,40.18 -1.38,40.75 1.38,40.75 ; -1.38,-37.64 -1.38,-40.75 1.38,-40.75 1.38,-40.18 ; -1.38,-36.02 -1.38,-32.56 ; -1.38,-30.94 -1.38,-27.48 ; -1.38,-25.86 -1.38,-22.4 ; -1.38,-20.78 -1.38,-17.32 ; -1.38,-15.7 -1.38,-12.24 ; -1.38,-10.62 -1.38,-7.16 ; -1.38,-5.54 -1.38,-2.08 ; -1.38,-0.46 -1.38,3 ; -1.38,4.62 -1.38,8.08 ; -1.38,9.7 -1.38,13.16 ; -1.38,14.78 -1.38,18.24 ; -1.38,19.86 -1.38,23.32 ; -1.38,24.94 -1.38,28.4 ; -1.38,30.02 -1.38,33.48 ; -1.38,35.1 -1.38,38.56 ; 1.38,-38.56 1.38,-35.1 ; 1.38,-33.48 1.38,-30.02 ; 1.38,-28.4 1.38,-24.94 ; 1.38,-23.32 1.38,-19.86 ; 1.38,-18.24 1.38,-14.78 ; 1.38,-13.16 1.38,-9.7 ; 1.38,-8.08 1.38,-4.62 ; 1.38,-3 1.38,0.46 ; 1.38,2.08 1.38,5.54 ; 1.38,7.16 1.38,10.62 ; 1.38,12.24 1.38,15.7 ; 1.38,17.32 1.38,20.78 ; 1.38,22.4 1.38,25.86 ; 1.38,27.48 1.38,30.94 ; 1.38,32.56 1.38,36.02 ; 1.38,37.64 1.38,40.18
Top Assembly:
  lines w0.254: -1.27,-37.15 -2.54,-37.15 -2.54,-36.51 -1.27,-36.51 ; -1.27,-32.07 -2.54,-32.07 -2.54,-31.43 -1.27,-31.43 ; -1.27,-26.99 -2.54,-26.99 -2.54,-26.35 -1.27,-26.35 ; -1.27,-21.91 -2.54,-21.91 -2.54,-21.27 -1.27,-21.27 ; -1.27,-16.83 -2.54,-16.83 -2.54,-16.19 -1.27,-16.19 ; -1.27,-11.75 -2.54,-11.75 -2.54,-11.11 -1.27,-11.11 ; -1.27,-6.67 -2.54,-6.67 -2.54,-6.03 -1.27,-6.03 ; -1.27,-1.59 -2.54,-1.59 -2.54,-0.95 -1.27,-0.95 ; -1.27,3.49 -2.54,3.49 -2.54,4.13 -1.27,4.13 ; -1.27,8.57 -2.54,8.57 -2.54,9.21 -1.27,9.21 ; -1.27,13.65 -2.54,13.65 -2.54,14.29 -1.27,14.29 ; -1.27,18.73 -2.54,18.73 -2.54,19.37 -1.27,19.37 ; -1.27,23.81 -2.54,23.81 -2.54,24.45 -1.27,24.45 ; -1.27,28.89 -2.54,28.89 -2.54,29.53 -1.27,29.53 ; -1.27,33.97 -2.54,33.97 -2.54,34.61 -1.27,34.61 ; -1.27,39.05 -2.54,39.05 -2.54,39.69 -1.27,39.69 ; 1.27,-39.69 2.54,-39.69 2.54,-39.05 1.27,-39.05 ; 1.27,-34.61 2.54,-34.61 2.54,-33.97 1.27,-33.97 ; 1.27,-29.53 2.54,-29.53 2.54,-28.89 1.27,-28.89 ; 1.27,-24.45 2.54,-24.45 2.54,-23.81 1.27,-23.81 ; 1.27,-19.37 2.54,-19.37 2.54,-18.73 1.27,-18.73 ; 1.27,-14.29 2.54,-14.29 2.54,-13.65 1.27,-13.65 ; 1.27,-9.21 2.54,-9.21 2.54,-8.57 1.27,-8.57 ; 1.27,-4.13 2.54,-4.13 2.54,-3.49 1.27,-3.49 ; 1.27,0.95 2.54,0.95 2.54,1.59 1.27,1.59 ; 1.27,6.03 2.54,6.03 2.54,6.67 1.27,6.67 ; 1.27,11.11 2.54,11.11 2.54,11.75 1.27,11.75 ; 1.27,16.19 2.54,16.19 2.54,16.83 1.27,16.83 ; 1.27,21.27 2.54,21.27 2.54,21.91 1.27,21.91 ; 1.27,26.35 2.54,26.35 2.54,26.99 1.27,26.99 ; 1.27,31.43 2.54,31.43 2.54,32.07 1.27,32.07 ; 1.27,36.51 2.54,36.51 2.54,37.15 1.27,37.15 ; -1.27,39.69 -1.27,-40.64 1.27,-40.64 1.27,40.64 -0.32,40.64 -1.27,39.69
  text "'.Designator'" at 0.84,-4.047 h1
Top Courtyard:
  lines w0.254: -3.41,-41.14 3.41,-41.14 3.41,41.14 -3.41,41.14 -3.41,-41.14
Top Designator:
  text ".Designator" at -7.618,-0.508 h1.52

## PinHeader_1x32_P2.54mm_Vertical_SMD_Pin1Right [mm]
pads (32):
  rect 2.51x1 smd: 1(1.655,39.37) 2(-1.655,36.83) 3(1.655,34.29) 4(-1.655,31.75) 5(1.655,29.21) 6(-1.655,26.67) 7(1.655,24.13) 8(-1.655,21.59) 9(1.655,19.05) 10(-1.655,16.51) 11(1.655,13.97) 12(-1.655,11.43) 13(1.655,8.89) 14(-1.655,6.35) 15(1.655,3.81) 16(-1.655,1.27) 17(1.655,-1.27) 18(-1.655,-3.81) 19(1.655,-6.35) 20(-1.655,-8.89) 21(1.655,-11.43) 22(-1.655,-13.97) 23(1.655,-16.51) 24(-1.655,-19.05) 25(1.655,-21.59) 26(-1.655,-24.13) 27(1.655,-26.67) 28(-1.655,-29.21) 29(1.655,-31.75) 30(-1.655,-34.29) 31(1.655,-36.83) 32(-1.655,-39.37)
F.SilkS:
  lines w0.254: -1.38,-40.18 -1.38,-40.75 1.38,-40.75 1.38,-37.64 ; -1.38,-38.56 -1.38,-35.1 ; -1.38,-33.48 -1.38,-30.02 ; -1.38,-28.4 -1.38,-24.94 ; -1.38,-23.32 -1.38,-19.86 ; -1.38,-18.24 -1.38,-14.78 ; -1.38,-13.16 -1.38,-9.7 ; -1.38,-8.08 -1.38,-4.62 ; -1.38,-3 -1.38,0.46 ; -1.38,2.08 -1.38,5.54 ; -1.38,7.16 -1.38,10.62 ; -1.38,12.24 -1.38,15.7 ; -1.38,17.32 -1.38,20.78 ; -1.38,22.4 -1.38,25.86 ; -1.38,27.48 -1.38,30.94 ; -1.38,32.56 -1.38,36.02 ; -1.38,40.18 -1.38,37.64 -1.38,40.75 1.38,40.75 1.38,40.18 2.85,40.18 ; 1.38,-36.02 1.38,-32.56 ; 1.38,-30.94 1.38,-27.48 ; 1.38,-25.86 1.38,-22.4 ; 1.38,-20.78 1.38,-17.32 ; 1.38,-15.7 1.38,-12.24 ; 1.38,-10.62 1.38,-7.16 ; 1.38,-5.54 1.38,-2.08 ; 1.38,-0.46 1.38,3 ; 1.38,4.62 1.38,8.08 ; 1.38,9.7 1.38,13.16 ; 1.38,14.78 1.38,18.24 ; 1.38,19.86 1.38,23.32 ; 1.38,24.94 1.38,28.4 ; 1.38,30.02 1.38,33.48 ; 1.38,35.1 1.38,38.56
Top Assembly:
  lines w0.254: -1.27,-39.69 -2.54,-39.69 -2.54,-39.05 -1.27,-39.05 ; -1.27,-34.61 -2.54,-34.61 -2.54,-33.97 -1.27,-33.97 ; -1.27,-29.53 -2.54,-29.53 -2.54,-28.89 -1.27,-28.89 ; -1.27,-24.45 -2.54,-24.45 -2.54,-23.81 -1.27,-23.81 ; -1.27,-19.37 -2.54,-19.37 -2.54,-18.73 -1.27,-18.73 ; -1.27,-14.29 -2.54,-14.29 -2.54,-13.65 -1.27,-13.65 ; -1.27,-9.21 -2.54,-9.21 -2.54,-8.57 -1.27,-8.57 ; -1.27,-4.13 -2.54,-4.13 -2.54,-3.49 -1.27,-3.49 ; -1.27,0.95 -2.54,0.95 -2.54,1.59 -1.27,1.59 ; -1.27,6.03 -2.54,6.03 -2.54,6.67 -1.27,6.67 ; -1.27,11.11 -2.54,11.11 -2.54,11.75 -1.27,11.75 ; -1.27,16.19 -2.54,16.19 -2.54,16.83 -1.27,16.83 ; -1.27,21.27 -2.54,21.27 -2.54,21.91 -1.27,21.91 ; -1.27,26.35 -2.54,26.35 -2.54,26.99 -1.27,26.99 ; -1.27,31.43 -2.54,31.43 -2.54,32.07 -1.27,32.07 ; -1.27,36.51 -2.54,36.51 -2.54,37.15 -1.27,37.15 ; 1.27,-37.15 2.54,-37.15 2.54,-36.51 1.27,-36.51 ; 1.27,-32.07 2.54,-32.07 2.54,-31.43 1.27,-31.43 ; 1.27,-26.99 2.54,-26.99 2.54,-26.35 1.27,-26.35 ; 1.27,-21.91 2.54,-21.91 2.54,-21.27 1.27,-21.27 ; 1.27,-16.83 2.54,-16.83 2.54,-16.19 1.27,-16.19 ; 1.27,-11.75 2.54,-11.75 2.54,-11.11 1.27,-11.11 ; 1.27,-6.67 2.54,-6.67 2.54,-6.03 1.27,-6.03 ; 1.27,-1.59 2.54,-1.59 2.54,-0.95 1.27,-0.95 ; 1.27,3.49 2.54,3.49 2.54,4.13 1.27,4.13 ; 1.27,8.57 2.54,8.57 2.54,9.21 1.27,9.21 ; 1.27,13.65 2.54,13.65 2.54,14.29 1.27,14.29 ; 1.27,18.73 2.54,18.73 2.54,19.37 1.27,19.37 ; 1.27,23.81 2.54,23.81 2.54,24.45 1.27,24.45 ; 1.27,28.89 2.54,28.89 2.54,29.53 1.27,29.53 ; 1.27,33.97 2.54,33.97 2.54,34.61 1.27,34.61 ; 1.27,39.05 2.54,39.05 2.54,39.69 1.27,39.69 ; 1.27,39.69 1.27,-40.64 -1.27,-40.64 -1.27,40.64 0.32,40.64 1.27,39.69
  text "'.Designator'" at 0.84,-4.047 h1
Top Courtyard:
  lines w0.254: -3.41,-41.14 3.41,-41.14 3.41,41.14 -3.41,41.14 -3.41,-41.14
Top Designator:
  text ".Designator" at -7.618,-0.508 h1.52

## PinHeader_1x33_P2.54mm_Horizontal [mm]
pads (33):
  rect 1.7x1.7 hole 1: 1(0,0)
  round 1.7 hole 1: 2(0,-2.54) 3(0,-5.08) 4(0,-7.62) 5(0,-10.16) 6(0,-12.7) 7(0,-15.24) 8(0,-17.78) 9(0,-20.32) 10(0,-22.86) 11(0,-25.4) 12(0,-27.94) 13(0,-30.48) 14(0,-33.02) 15(0,-35.56) 16(0,-38.1) 17(0,-40.64) 18(0,-43.18) 19(0,-45.72) 20(0,-48.26) 21(0,-50.8) 22(0,-53.34) 23(0,-55.88) 24(0,-58.42) 25(0,-60.96) 26(0,-63.5) 27(0,-66.04) 28(0,-68.58) 29(0,-71.12) 30(0,-73.66) 31(0,-76.2) 32(0,-78.74) 33(0,-81.28)
F.SilkS:
  drawing of 204 lines, arcs and shapes, not listed
Top Assembly:
  drawing of 203 lines, arcs and shapes, not listed
  text "'.Designator'" at 3.61,-44.687 h1
Top Courtyard:
  lines w0.254: -1.77,-83.05 10.54,-83.05 10.54,1.77 -1.77,1.77 -1.77,-83.05
Top Designator:
  text ".Designator" at -3.233,-41.148 h1.52

## PinHeader_1x33_P2.54mm_Vertical [mm]
pads (33):
  rect 1.7x1.7 hole 1: 1(0,0)
  round 1.7 hole 1: 2(0,-2.54) 3(0,-5.08) 4(0,-7.62) 5(0,-10.16) 6(0,-12.7) 7(0,-15.24) 8(0,-17.78) 9(0,-20.32) 10(0,-22.86) 11(0,-25.4) 12(0,-27.94) 13(0,-30.48) 14(0,-33.02) 15(0,-35.56) 16(0,-38.1) 17(0,-40.64) 18(0,-43.18) 19(0,-45.72) 20(0,-48.26) 21(0,-50.8) 22(0,-53.34) 23(0,-55.88) 24(0,-58.42) 25(0,-60.96) 26(0,-63.5) 27(0,-66.04) 28(0,-68.58) 29(0,-71.12) 30(0,-73.66) 31(0,-76.2) 32(0,-78.74) 33(0,-81.28)
F.SilkS:
  lines w0.254: -1.38,0 -1.38,1.38 0,1.38 ; -1.38,-82.66 1.38,-82.66 1.38,-1.27 -1.38,-1.27 -1.38,-82.66
Top Assembly:
  lines w0.254: -1.27,-82.55 1.27,-82.55 1.27,1.27 -0.635,1.27 -1.27,0.635 -1.27,-82.55
  text "'.Designator'" at 0.84,-44.687 h1
Top Courtyard:
  lines w0.254: -1.77,-83.05 1.77,-83.05 1.77,1.77 -1.77,1.77 -1.77,-83.05
Top Designator:
  text ".Designator" at -7.618,-41.148 h1.52